# Altium integrated library Altium_WCAP-CSMH (rev22c).IntLib: 110 symbols (part 3 of 3)
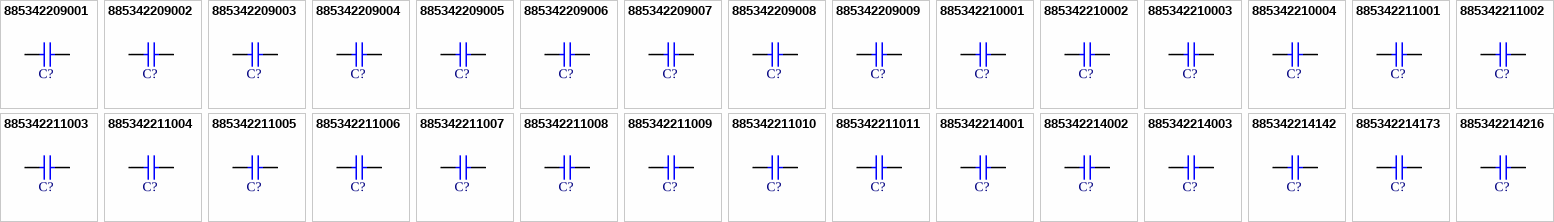
[diagram p4: symbols 885342209001 to 885342214216]

## 885342211007
designator C?, comment 2.2nF  (value not drawn)
WCAP-CSMH Multilayer Ceramic Chip Capacitor, Mid and High Voltage, size 1812, X7R Class II, 2.2nF, 2; Manufacturer Part Number: 885342211007; Manufacturer: Wurth Elektronik; Case/Size Code: 1812; Capacitance Tolerance: 10%; Dissipation Factor: 2.5%; Insulation Resistance: 10GΩ; Rated Voltage (DC): 2000V; Technical Reference: X7R1812222KB00DFCT10000; ComponentLink1Description: Website Link; ComponentLink1URL: https://www.we-online.com/redexpert/article/885342211007?ad; ComponentLink2Description: Datasheet Link; ComponentLink2URL: https://www.we-online.com/redexpert/spec/885342211007?ad; Category: Multilayer Ceramic Chip Capacitors; Match Code: WCAP-CSMH; Mount: Surface Mount; Operating Temperature Max: 125°C; Operating Temperature Min: -55°C; Packaging: Tape and Reel; Length: 4.5mm; Width: 3.2mm; Height: 1.25mm; Capacitance: 2.2nF; Ceramic Type: X7R Class II
footprint WCAP-CSMH_1812_L4.5W3.2H1.25
pins: 1, 2

## 885342211008
designator C?, comment 4.7nF  (value not drawn)
WCAP-CSMH Multilayer Ceramic Chip Capacitor, Mid and High Voltage, size 1812, X7R Class II, 4.7nF, 2; Manufacturer Part Number: 885342211008; Manufacturer: Wurth Elektronik; Case/Size Code: 1812; Capacitance Tolerance: 10%; Dissipation Factor: 2.5%; Insulation Resistance: 10GΩ; Rated Voltage (DC): 2000V; Technical Reference: X7R1812472KB00DFCT10000; ComponentLink1Description: Website Link; ComponentLink1URL: https://www.we-online.com/redexpert/article/885342211008?ad; ComponentLink2Description: Datasheet Link; ComponentLink2URL: https://www.we-online.com/redexpert/spec/885342211008?ad; Category: Multilayer Ceramic Chip Capacitors; Match Code: WCAP-CSMH; Mount: Surface Mount; Operating Temperature Max: 125°C; Operating Temperature Min: -55°C; Packaging: Tape and Reel; Length: 4.5mm; Width: 3.2mm; Height: 2mm; Capacitance: 4.7nF; Ceramic Type: X7R Class II
footprint WCAP-CSMH_1812_L4.5W3.2H2
pins: 1, 2

## 885342211009
designator C?, comment 1nF  (value not drawn)
WCAP-CSMH Multilayer Ceramic Chip Capacitor, Mid and High Voltage, size 1812, X7R Class II, 1nF, 300; Manufacturer Part Number: 885342211009; Manufacturer: Wurth Elektronik; Case/Size Code: 1812; Capacitance Tolerance: 10%; Dissipation Factor: 2.5%; Insulation Resistance: 10GΩ; Rated Voltage (DC): 3000V; Technical Reference: X7R1812102KC00DFCT10000; ComponentLink1Description: Website Link; ComponentLink1URL: https://www.we-online.com/redexpert/article/885342211009?ad; ComponentLink2Description: Datasheet Link; ComponentLink2URL: https://www.we-online.com/redexpert/spec/885342211009?ad; Category: Multilayer Ceramic Chip Capacitors; Match Code: WCAP-CSMH; Mount: Surface Mount; Operating Temperature Max: 125°C; Operating Temperature Min: -55°C; Packaging: Tape and Reel; Length: 4.5mm; Width: 3.2mm; Height: 2mm; Capacitance: 1nF; Ceramic Type: X7R Class II
footprint WCAP-CSMH_1812_L4.5W3.2H2
pins: 1, 2

## 885342211010
designator C?, comment 2.2nF  (value not drawn)
WCAP-CSMH Multilayer Ceramic Chip Capacitor, Mid and High Voltage, size 1812, X7R Class II, 2.2nF, 3; Manufacturer Part Number: 885342211010; Manufacturer: Wurth Elektronik; Case/Size Code: 1812; Capacitance Tolerance: 10%; Dissipation Factor: 2.5%; Insulation Resistance: 10GΩ; Rated Voltage (DC): 3000V; Technical Reference: X7R1812222KC00DFCT10000; ComponentLink1Description: Website Link; ComponentLink1URL: https://www.we-online.com/redexpert/article/885342211010?ad; ComponentLink2Description: Datasheet Link; ComponentLink2URL: https://www.we-online.com/redexpert/spec/885342211010?ad; Category: Multilayer Ceramic Chip Capacitors; Match Code: WCAP-CSMH; Mount: Surface Mount; Operating Temperature Max: 125°C; Operating Temperature Min: -55°C; Packaging: Tape and Reel; Length: 4.5mm; Width: 3.2mm; Height: 2.5mm; Capacitance: 2.2nF; Ceramic Type: X7R Class II
footprint WCAP-CSMH_1812_L4.5W3.2H2.5
pins: 1, 2

## 885342211011
designator C?, comment 1uF  (value not drawn)
WCAP-CSMH Multilayer Ceramic Chip Capacitor, Mid and High Voltage, size 1812, X7R Class II, 1uF, 250; Manufacturer Part Number: 885342211011; Manufacturer: Wurth Elektronik; Case/Size Code: 1812; Capacitance Tolerance: 10%; Dissipation Factor: 2.5%; Insulation Resistance: 0.1GΩ; Rated Voltage (DC): 250V; Technical Reference: X7R1812105K250DFCT10000; ComponentLink1Description: Website Link; ComponentLink1URL: https://www.we-online.com/redexpert/article/885342211011?ad; ComponentLink2Description: Datasheet Link; ComponentLink2URL: https://www.we-online.com/redexpert/spec/885342211011?ad; Category: Multilayer Ceramic Chip Capacitors; Match Code: WCAP-CSMH; Mount: Surface Mount; Operating Temperature Max: 125°C; Operating Temperature Min: -55°C; Packaging: Tape and Reel; Length: 4.5mm; Width: 3.2mm; Height: 2.5mm; Capacitance: 1uF; Ceramic Type: X7R Class II
footprint WCAP-CSMH_1812_L4.5W3.2H2.5
pins: 1, 2

## 885342214001
designator C?, comment 1µF  (value not drawn)
WCAP-CSMH Multilayer Ceramic Chip Capacitor, Mid and High Voltage, size 2220, X7R Class II, 1µF, 630; Manufacturer Part Number: 885342214001; Manufacturer: Wurth Elektronik; Case/Size Code: 2220; Capacitance Tolerance: 10%; Dissipation Factor: 2.5%; Insulation Resistance: 0.1GΩ; Rated Voltage (DC): 630V; Technical Reference: X7R2220105K630DFCT10000; ComponentLink1Description: Website Link; ComponentLink1URL: https://www.we-online.com/redexpert/article/885342214001?ad; ComponentLink2Description: Datasheet Link; ComponentLink2URL: https://www.we-online.com/redexpert/spec/885342214001?ad; Category: Multilayer Ceramic Chip Capacitors; Match Code: WCAP-CSMH; Mount: Surface Mount; Operating Temperature Max: 125°C; Operating Temperature Min: -55°C; Packaging: Tape and Reel; Length: 5.7mm; Width: 5mm; Height: 2.8mm; Capacitance: 1µF; Ceramic Type: X7R Class II
footprint WCAP-CSMH_2220_L5.7W5H2.8
pins: 1, 2

## 885342214002
designator C?, comment 1µF  (value not drawn)
WCAP-CSMH Multilayer Ceramic Chip Capacitor, Mid and High Voltage, size 2220, X7R Class II, 1µF, 250; Manufacturer Part Number: 885342214002; Manufacturer: Wurth Elektronik; Case/Size Code: 2220; Capacitance Tolerance: 10%; Dissipation Factor: 2.5%; Insulation Resistance: 0.1GΩ; Rated Voltage (DC): 250V; Technical Reference: X7R2220105K250DFCT10000; ComponentLink1Description: Website Link; ComponentLink1URL: https://www.we-online.com/redexpert/article/885342214002?ad; ComponentLink2Description: Datasheet Link; ComponentLink2URL: https://www.we-online.com/redexpert/spec/885342214002?ad; Category: Multilayer Ceramic Chip Capacitors; Match Code: WCAP-CSMH; Mount: Surface Mount; Operating Temperature Max: 125°C; Operating Temperature Min: -55°C; Packaging: Tape and Reel; Length: 5.7mm; Width: 5mm; Height: 2mm; Capacitance: 1µF; Ceramic Type: X7R Class II
footprint WCAP-CSMH_2220_L5.7W5H2
pins: 1, 2

## 885342214003
designator C?, comment 2.2µF  (value not drawn)
WCAP-CSMH Multilayer Ceramic Chip Capacitor, Mid and High Voltage, size 2220, X7R Class II, 2.2µF, 2; Manufacturer Part Number: 885342214003; Manufacturer: Wurth Elektronik; Case/Size Code: 2220; Capacitance Tolerance: 10%; Dissipation Factor: 2.5%; Insulation Resistance: 0.05GΩ; Rated Voltage (DC): 250V; Technical Reference: X7R2220225K250DFCT10000; ComponentLink1Description: Website Link; ComponentLink1URL: https://www.we-online.com/redexpert/article/885342214003?ad; ComponentLink2Description: Datasheet Link; ComponentLink2URL: https://www.we-online.com/redexpert/spec/885342214003?ad; Category: Multilayer Ceramic Chip Capacitors; Match Code: WCAP-CSMH; Mount: Surface Mount; Operating Temperature Max: 125°C; Operating Temperature Min: -55°C; Packaging: Tape and Reel; Length: 5.7mm; Width: 5mm; Height: 2.5mm; Capacitance: 2.2µF; Ceramic Type: X7R Class II
footprint WCAP-CSMH_2220_L5.7W5H2.5
pins: 1, 2

## 885342214142
designator C?, comment 220nF  (value not drawn)
WCAP-CSMH Multilayer Ceramic Chip Capacitor, Mid and High Voltage, size 2220, X7R Class II, 220nF, 6; Manufacturer Part Number: 885342214142; Manufacturer: Wurth Elektronik; Case/Size Code: 2220; Capacitance Tolerance: 10%; Dissipation Factor: 2.5%; Insulation Resistance: 0.5GΩ; Rated Voltage (DC): 630V; Technical Reference: X7R2220224K630DFCT10000; ComponentLink1Description: Website Link; ComponentLink1URL: https://www.we-online.com/redexpert/article/885342214142?ad; ComponentLink2Description: Datasheet Link; ComponentLink2URL: https://www.we-online.com/redexpert/spec/885342214142?ad; Category: Multilayer Ceramic Chip Capacitors; Match Code: WCAP-CSMH; Mount: Surface Mount; Operating Temperature Max: 125°C; Operating Temperature Min: -55°C; Packaging: Tape and Reel; Length: 5.7mm; Width: 5mm; Height: 2mm; Capacitance: 220nF; Ceramic Type: X7R Class II
footprint WCAP-CSMH_2220_L5.7W5H2
pins: 1, 2

## 885342214173
designator C?, comment 100nF  (value not drawn)
WCAP-CSMH Multilayer Ceramic Chip Capacitor, Mid and High Voltage, size 2220, X7R Class II, 100nF, 1; Manufacturer Part Number: 885342214173; Manufacturer: Wurth Elektronik; Case/Size Code: 2220; Capacitance Tolerance: 10%; Dissipation Factor: 2.5%; Insulation Resistance: 1GΩ; Rated Voltage (DC): 1000V; Technical Reference: X7R2220104KA00DFCT10000; ComponentLink1Description: Website Link; ComponentLink1URL: https://www.we-online.com/redexpert/article/885342214173?ad; ComponentLink2Description: Datasheet Link; ComponentLink2URL: https://www.we-online.com/redexpert/spec/885342214173?ad; Category: Multilayer Ceramic Chip Capacitors; Match Code: WCAP-CSMH; Mount: Surface Mount; Operating Temperature Max: 125°C; Operating Temperature Min: -55°C; Packaging: Tape and Reel; Length: 5.7mm; Width: 5mm; Height: 2.5mm; Capacitance: 100nF; Ceramic Type: X7R Class II
footprint WCAP-CSMH_2220_L5.7W5H2.5
pins: 1, 2

## 885342214216
designator C?, comment 22nF  (value not drawn)
WCAP-CSMH Multilayer Ceramic Chip Capacitor, Mid and High Voltage, size 2220, X7R Class II, 22nF, 20; Manufacturer Part Number: 885342214216; Manufacturer: Wurth Elektronik; Case/Size Code: 2220; Capacitance Tolerance: 10%; Dissipation Factor: 2.5%; Insulation Resistance: 5GΩ; Rated Voltage (DC): 2000V; Technical Reference: X7R2220223KB00DFCT10000; ComponentLink1Description: Website Link; ComponentLink1URL: https://www.we-online.com/redexpert/article/885342214216?ad; ComponentLink2Description: Datasheet Link; ComponentLink2URL: https://www.we-online.com/redexpert/spec/885342214216?ad; Category: Multilayer Ceramic Chip Capacitors; Match Code: WCAP-CSMH; Mount: Surface Mount; Operating Temperature Max: 125°C; Operating Temperature Min: -55°C; Packaging: Tape and Reel; Length: 5.7mm; Width: 5mm; Height: 2.8mm; Capacitance: 22nF; Ceramic Type: X7R Class II
footprint WCAP-CSMH_2220_L5.7W5H2.8
pins: 1, 2